# Altium footprint library con-wago-508.PCBLIB: 18 footprints (part 1 of 2)
Each footprint in its own frame and in the unit in brackets; x right, y up, seen from the top. Pads: shape width x height; smd on the part's side, far side on the other; paste and mask are expansions set on the pad; w line width, h text height; cw(c..) or ccw(c..) is an arc to the next point about the centre after c.
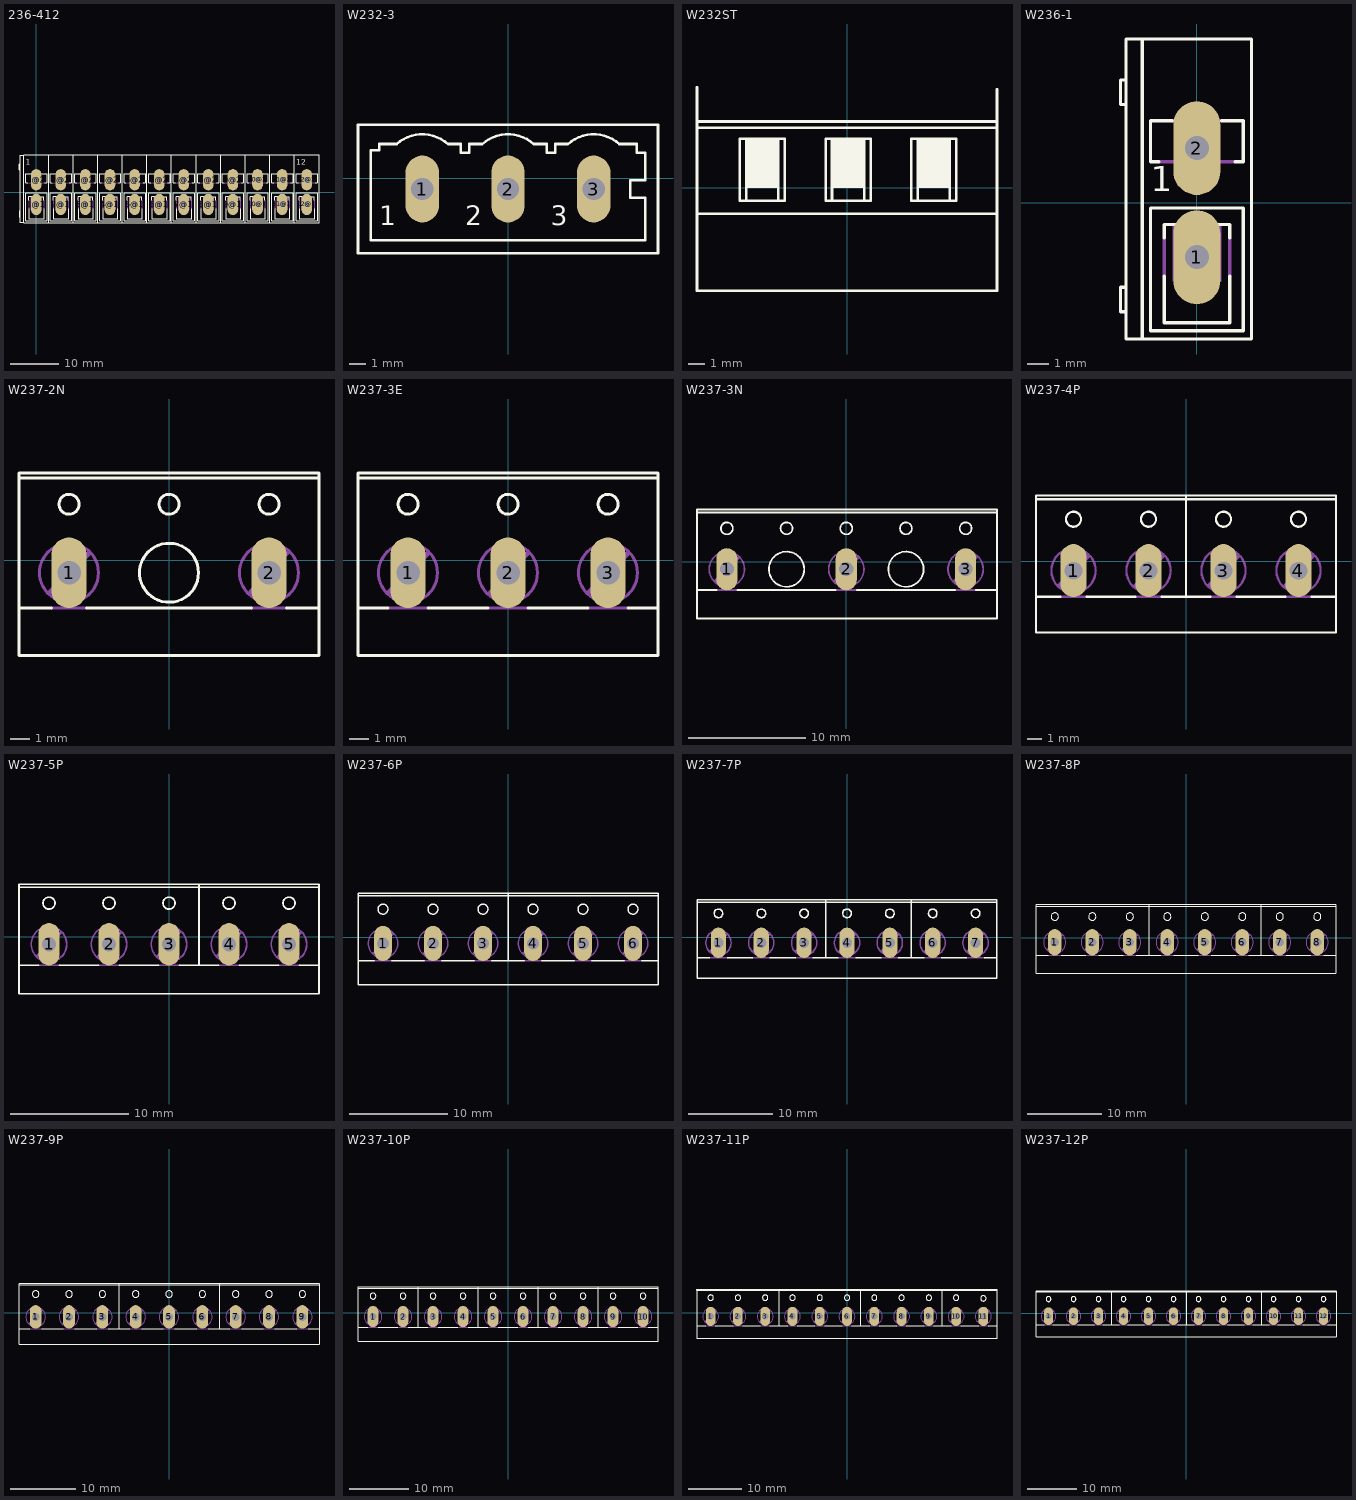
[diagram p0: the footprints below, top view; thin cyan lines are the x and y axes]

## 236-412 [mil]
pads (24):
  oval 86x172 hole 44: 1@1(0,-100) 1@2(0,100) 2@1(200,-100) 2@2(200,100) 3@1(400,-100) 3@2(400,100) 4@1(600,-100) 4@2(600,100) 5@1(800,-100) 5@2(800,100) 6@1(1000,-100) 6@2(1000,100) 7@1(1200,-100) 7@2(1200,100) 8@1(1400,-100) 8@2(1400,100) 9@1(1600,-100) 9@2(1600,100) 10@1(1800,-100) 10@2(1800,100) 11@1(2000,-100) 11@2(2000,100) 12@1(2200,-100) 12@2(2200,100)
Top Overlay:
  drawing of 254 lines, arcs and shapes, not listed
  text "1" at -85,205 h77.5
  text "12" at 2115,205 h77.5
Mechanical 16:
  rectangle: -45,-145 45,-40
  rectangle: 155,-145 245,-40
  rectangle: 355,-145 445,-40
  rectangle: 555,-145 645,-40
  rectangle: 755,-145 845,-40
  rectangle: 955,-145 1045,-40
  rectangle: 1155,-145 1245,-40
  rectangle: 1355,-145 1445,-40
  rectangle: 1555,-145 1645,-40
  rectangle: 1755,-145 1845,-40
  rectangle: 1955,-145 2045,-40
  rectangle: 2155,-145 2245,-40
  lines w6: -70,75 70,75 ; -60,-135 -60,-65 ; -45,150 45,150 ; -35,-40 35,-40 ; 60,-135 60,-65 ; 130,75 270,75 ; 140,-135 140,-65 ; 155,150 245,150 ; 165,-40 235,-40 ; 260,-135 260,-65 ; 330,75 470,75 ; 340,-135 340,-65 ; 355,150 445,150 ; 365,-40 435,-40 ; 460,-135 460,-65 ; 530,75 670,75 ; 540,-135 540,-65 ; 555,150 645,150 ; 565,-40 635,-40 ; 660,-135 660,-65 ; 730,75 870,75 ; 740,-135 740,-65 ; 755,150 845,150 ; 765,-40 835,-40 ; 860,-135 860,-65 ; 930,75 1070,75 ; 940,-135 940,-65 ; 955,150 1045,150 ; 965,-40 1035,-40 ; 1060,-135 1060,-65 ; 1130,75 1270,75 ; 1140,-135 1140,-65 ; 1155,150 1245,150 ; 1165,-40 1235,-40 ; 1260,-135 1260,-65 ; 1330,75 1470,75 ; 1340,-135 1340,-65 ; 1355,150 1445,150 ; 1365,-40 1435,-40 ; 1460,-135 1460,-65 ; 1530,75 1670,75 ; 1540,-135 1540,-65 ; 1555,150 1645,150 ; 1565,-40 1635,-40 ; 1660,-135 1660,-65 ; 1730,75 1870,75 ; 1740,-135 1740,-65 ; 1755,150 1845,150 ; 1765,-40 1835,-40 ; 1860,-135 1860,-65 ; 1930,75 2070,75 ; 1940,-135 1940,-65 ; 1955,150 2045,150 ; 1965,-40 2035,-40 ; 2060,-135 2060,-65 ; 2130,75 2270,75 ; 2140,-135 2140,-65 ; 2155,150 2245,150 ; 2165,-40 2235,-40 ; 2260,-135 2260,-65

## W232-3 [mil]
pads (3):
  oval 78x156 hole 52: 1(-200,-25) 2(0,-25) 3(200,-25)
Top Overlay:
  lines w6: -140.35,80.32 ccw(c-199.99,12) -260,80 -300,80 -300,65 -320,65 -320,-145 320,-145 320,-45 285,-45 285,-5 320,-5 320,60 300,60 300,80 260,80 ; -140,80 -110,80 -110,60 -90,60 -90,80 -60,80 cw(c0,12) 59.64,80.32 ; 60,80 90,80 90,60 110,60 110,80 140,80 cw(c200,12) 259.64,80.31 ; -350,-175 350,-175 350,125 -350,125 -350,-175
  text "1" at -300,-125 h77.5
  text "2" at -100,-125 h77.5
  text "3" at 100,-125 h77.5

## W232ST [mil]
Top Overlay:
  rectangle: -235,0 -160,115
  rectangle: -35,0 40,115
  rectangle: 165,0 240,115
  lines w6: -350,235 -350,155 ; 350,230 350,155 ; -350,-60 -350,-240 350,-240 350,-60 ; -350,-60 350,-60 ; -350,-60 -350,140 ; -350,140 350,140 ; -350,140 -350,155 ; -350,155 350,155 ; -235,-30 -250,-30 -250,115 -235,115 ; -235,-30 -235,115 ; -235,-30 -160,-30 ; -235,115 -160,115 ; -160,-30 -160,115 ; -160,-30 -145,-30 -145,115 -160,115 ; -35,-30 -50,-30 -50,115 -35,115 ; -35,-30 -35,115 ; -35,-30 40,-30 ; -35,115 40,115 ; 40,-30 40,115 ; 40,-30 55,-30 55,115 40,115 ; 165,-30 150,-30 150,115 165,115 ; 165,-30 165,115 ; 165,-30 240,-30 ; 165,115 240,115 ; 240,-30 240,115 ; 240,-30 255,-30 255,115 240,115 ; 350,-60 350,140 ; 350,140 350,155

## W236-1 [mil]
pads (2):
  oval 86x172 hole 44: 1(0,-100) 2(0,100)
Top Overlay:
  lines w6: -70,75 -85,75 -85,150 -45,150 ; -60,-135 -60,-220 60,-220 60,-135 ; -60,-65 -60,-40 -35,-40 ; 35,-40 60,-40 60,-65 ; 45,150 85,150 85,75 70,75 ; -130,-200 -130,-250 -100,-250 ; -130,-200 -140,-200 -140,-155 -130,-155 ; -130,-200 -130,-155 ; -130,-155 -130,180 ; -130,180 -140,180 -140,225 -130,225 ; -130,180 -130,225 ; -130,225 -130,300 -100,300 ; -100,-250 100,-250 100,300 -100,300 ; -100,-250 -100,300 ; -85,-235 85,-235 85,-10 -85,-10 -85,-235
  text "1" at -85,5 h77.5
Mechanical 16:
  rectangle: -45,-145 45,-40
  lines w6: -70,75 70,75 ; -60,-135 -60,-65 ; -45,150 45,150 ; -35,-40 35,-40 ; 60,-135 60,-65

## W237-2N [mil]
pads (2):
  oval 70.5x141 hole 47: 1(-200,-25) 2(200,-25)
Top Overlay:
  circle w6: c-200,112 r20
  circle w6: c200,112 r20
  circle w6: c0,-25 r59
  circle w6: c0,112 r20
  lines w6: -235,-95 -300,-95 ; -165,-95 165,-95 ; 235,-95 300,-95 ; -300,-95 -300,-190 300,-190 300,-95 ; -300,-95 -300,165 ; -300,165 300,165 ; -300,165 -300,175 300,175 300,165 ; 300,-95 300,165
Mechanical 16:
  circle w6: c-200,-25 r59
  circle w6: c200,-25 r59
  lines w6: -235,-95 -165,-95 ; 165,-95 235,-95
  lines w10: -239,-65 -160,14 ; 164,-63 235,14
  text "1" at -275,50 h77.5
  text "2" at 127,50 h77.5

## W237-3E [mil]
pads (3):
  oval 70.5x141 hole 47: 1(-200,-25) 2(0,-25) 3(200,-25)
Top Overlay:
  circle w6: c-200,112 r20
  circle w6: c0,112 r20
  circle w6: c200,112 r20
  lines w6: -240,-95 -300,-95 ; -160,-95 -40,-95 ; 40,-95 160,-95 ; 240,-95 300,-95 ; -300,-95 -300,-190 300,-190 300,-95 ; -300,-95 -300,165 ; -300,165 300,165 ; -300,165 -300,175 300,175 300,165 ; 300,-95 300,165
Mechanical 16:
  circle w6: c-200,-25 r59
  circle w6: c0,-25 r59
  circle w6: c200,-25 r59
  lines w6: -240,-95 -160,-95 ; -40,-95 40,-95 ; 160,-95 240,-95
  lines w10: -239,-65 -160,14 ; -36,-66 39,14 ; 161,-65 240,14
  text "1" at -275,50 h77.5
  text "2" at -73,48 h77.5
  text "3" at 125,50 h77.5

## W237-3N [mil]
pads (3):
  oval 70.5x141 hole 47: 1(-400,-25) 2(0,-25) 3(400,-25)
Top Overlay:
  circle w6: c-400,112 r20
  circle w6: c-200,-25 r59
  circle w6: c-200,112 r20
  circle w6: c0,112 r20
  circle w6: c400,112 r20
  circle w6: c200,-25 r59
  circle w6: c200,112 r20
  lines w6: -435,-95 -500,-95 ; -365,-95 -35,-95 ; 35,-95 365,-95 ; 435,-95 505,-95 ; -500,-95 -500,-190 505,-190 505,-95 ; -500,-95 -500,165 ; -500,165 505,165 ; -500,165 -500,175 505,175 505,165 ; 505,-95 505,165
Mechanical 16:
  circle w6: c-400,-25 r59
  circle w6: c0,-25 r59
  circle w6: c400,-25 r59
  lines w6: -435,-95 -365,-95 ; -35,-95 35,-95 ; 365,-95 435,-95
  lines w10: -439,-65 -360,14 ; -39,-65 40,14 ; 364,-63 435,14
  text "1" at -475,50 h77.5
  text "3" at 327,50 h77.5
  text "2" at -75,50 h77.5

## W237-4P [mil]
pads (4):
  oval 70.5x141 hole 47: 1(-300,-25) 2(-100,-25) 3(100,-25) 4(300,-25)
Top Overlay:
  circle w6: c-300,112 r20
  circle w6: c-100,112 r20
  circle w6: c100,112 r20
  circle w6: c300,112 r20
  lines w6: -335,-95 -400,-95 ; -265,-95 -135,-95 ; -65,-95 0,-95 ; 65,-95 0,-95 ; 135,-95 265,-95 ; 335,-95 400,-95 ; -400,-95 -400,-190 400,-190 400,-95 ; -400,-95 -400,165 ; -400,165 400,165 ; -400,165 -400,175 0,175 ; 0,-95 0,175 ; 0,175 400,175 400,165 ; 400,-95 400,165
Mechanical 16:
  circle w6: c-300,-25 r59
  circle w6: c-100,-25 r59
  circle w6: c100,-25 r59
  circle w6: c300,-25 r59
  lines w6: -335,-95 -265,-95 ; -135,-95 -65,-95 ; 65,-95 135,-95 ; 265,-95 335,-95
  lines w10: -339,-65 -260,14 ; -136,-66 -61,14 ; 61,-65 140,14 ; 264,-66 339,14
  text "1" at -375,50 h77.5
  text "2" at -173,48 h77.5
  text "3" at 25,50 h77.5
  text "4" at 227,48 h77.5

## W237-5P [mil]
pads (5):
  oval 70.5x141 hole 47: 1(-400,-25) 2(-200,-25) 3(0,-25) 4(200,-25) 5(400,-25)
Top Overlay:
  circle w6: c-400,112 r20
  circle w6: c0,112 r20
  circle w6: c-200,112 r20
  circle w6: c200,112 r20
  circle w6: c400,112 r20
  lines w6: -435,-95 -500,-95 ; -365,-95 -235,-95 ; -165,-95 -35,-95 ; 35,-95 100,-95 ; 165,-95 100,-95 ; 235,-95 365,-95 ; 435,-95 500,-95 ; -500,-95 -500,-190 500,-190 500,-95 ; -500,-95 -500,165 ; -500,165 500,165 ; -500,165 -500,175 100,175 ; 100,-95 100,175 ; 100,175 500,175 500,165 ; 500,-95 500,165
Mechanical 16:
  circle w6: c-400,-25 r59
  circle w6: c0,-25 r59
  circle w6: c-200,-25 r59
  circle w6: c200,-25 r59
  circle w6: c400,-25 r59
  lines w6: -435,-95 -365,-95 ; -235,-95 -165,-95 ; -35,-95 35,-95 ; 165,-95 235,-95 ; 365,-95 435,-95
  lines w10: -439,-65 -360,14 ; -236,-66 -161,14 ; -36,-63 35,14 ; 161,-65 240,14 ; 364,-66 439,14
  text "1" at -475,50 h77.5
  text "2" at -273,48 h77.5
  text "3" at -73,50 h77.5
  text "4" at 125,50 h77.5
  text "5" at 327,48 h77.5

## W237-6P [mil]
pads (6):
  oval 70.5x141 hole 47: 1(-500,-25) 2(-300,-25) 3(-100,-25) 4(100,-25) 5(300,-25) 6(500,-25)
Top Overlay:
  circle w6: c-500,112 r20
  circle w6: c-100,112 r20
  circle w6: c-300,112 r20
  circle w6: c100,112 r20
  circle w6: c500,112 r20
  circle w6: c300,112 r20
  lines w6: -535,-95 -600,-95 ; -465,-95 -335,-95 ; -265,-95 -135,-95 ; -65,-95 0,-95 ; 65,-95 0,-95 ; 135,-95 265,-95 ; 335,-95 465,-95 ; 535,-95 600,-95 ; -600,-95 -600,-190 600,-190 600,-95 ; -600,-95 -600,165 ; -600,165 -600,175 0,175 ; -600,165 600,165 ; 0,-95 0,175 ; 0,175 600,175 600,165 ; 600,-95 600,165
Mechanical 16:
  circle w6: c-500,-25 r59
  circle w6: c-100,-25 r59
  circle w6: c-300,-25 r59
  circle w6: c100,-25 r59
  circle w6: c500,-25 r59
  circle w6: c300,-25 r59
  lines w6: -535,-95 -465,-95 ; -335,-95 -265,-95 ; -135,-95 -65,-95 ; 65,-95 135,-95 ; 265,-95 335,-95 ; 465,-95 535,-95
  lines w10: -539,-65 -460,14 ; -336,-66 -261,14 ; -136,-63 -65,14 ; 61,-65 140,14 ; 264,-66 339,14 ; 464,-63 535,14
  text "1" at -575,50 h77.5
  text "2" at -373,48 h77.5
  text "3" at -173,50 h77.5
  text "4" at 25,50 h77.5
  text "5" at 227,48 h77.5
  text "6" at 427,50 h77.5

## W237-7P [mil]
pads (7):
  oval 70.5x141 hole 47: 1(-600,-25) 2(-400,-25) 3(-200,-25) 4(0,-25) 5(200,-25) 6(400,-25) 7(600,-25)
Top Overlay:
  circle w6: c-600,112 r20
  circle w6: c-400,112 r20
  circle w6: c-200,112 r20
  circle w6: c0,112 r20
  circle w6: c200,112 r20
  circle w6: c600,112 r20
  circle w6: c400,112 r20
  lines w6: -640,-95 -700,-95 ; -560,-95 -440,-95 ; -360,-95 -240,-95 ; -160,-95 -100,-95 ; -40,-95 -100,-95 ; 40,-95 160,-95 ; 240,-95 300,-95 ; 360,-95 300,-95 ; 440,-95 560,-95 ; 640,-95 700,-95 ; -700,-95 -700,-190 700,-190 700,-95 ; -700,-95 -700,165 ; -700,165 700,165 ; -700,165 -700,175 -100,175 ; -100,-95 -100,175 ; -100,175 300,175 ; 300,-95 300,175 ; 300,175 700,175 700,165 ; 700,-95 700,165
Mechanical 16:
  circle w6: c-600,-25 r59
  circle w6: c-400,-25 r59
  circle w6: c-200,-25 r59
  circle w6: c0,-25 r59
  circle w6: c200,-25 r59
  circle w6: c600,-25 r59
  circle w6: c400,-25 r59
  lines w6: -640,-95 -560,-95 ; -440,-95 -360,-95 ; -240,-95 -160,-95 ; -40,-95 40,-95 ; 160,-95 240,-95 ; 360,-95 440,-95 ; 560,-95 640,-95
  lines w10: -639,-65 -560,14 ; -436,-66 -361,14 ; -239,-65 -160,14 ; -36,-66 39,14 ; 161,-65 240,14 ; 364,-66 439,14 ; 564,-63 635,14
  text "1" at -675,50 h77.5
  text "2" at -473,48 h77.5
  text "3" at -275,50 h77.5
  text "4" at -73,48 h77.5
  text "5" at 125,50 h77.5
  text "6" at 327,48 h77.5
  text "7" at 527,50 h77.5

## W237-8P [mil]
pads (8):
  oval 70.5x141 hole 47: 1(-700,-25) 2(-500,-25) 3(-300,-25) 4(-100,-25) 5(100,-25) 6(300,-25) 7(500,-25) 8(700,-25)
Top Overlay:
  circle w6: c-700,112 r20
  circle w6: c-500,112 r20
  circle w6: c-300,112 r20
  circle w6: c-100,112 r20
  circle w6: c100,112 r20
  circle w6: c300,112 r20
  circle w6: c500,112 r20
  circle w6: c700,112 r20
  lines w6: -735,-95 -800,-95 ; -665,-95 -535,-95 ; -465,-95 -335,-95 ; -265,-95 -200,-95 ; -135,-95 -200,-95 ; -65,-95 65,-95 ; 135,-95 265,-95 ; 335,-95 400,-95 ; 465,-95 400,-95 ; 535,-95 665,-95 ; 735,-95 800,-95 ; -800,-95 -800,-190 800,-190 800,-95 ; -800,-95 -800,165 ; -800,165 800,165 ; -800,165 -800,175 -200,175 ; -200,-95 -200,175 ; -200,175 400,175 ; 400,-95 400,175 ; 400,175 800,175 800,165 ; 800,-95 800,165
Mechanical 16:
  circle w6: c-700,-25 r59
  circle w6: c-500,-25 r59
  circle w6: c-300,-25 r59
  circle w6: c-100,-25 r59
  circle w6: c100,-25 r59
  circle w6: c300,-25 r59
  circle w6: c500,-25 r59
  circle w6: c700,-25 r59
  lines w6: -735,-95 -665,-95 ; -535,-95 -465,-95 ; -335,-95 -265,-95 ; -135,-95 -65,-95 ; 65,-95 135,-95 ; 265,-95 335,-95 ; 465,-95 535,-95 ; 665,-95 735,-95
  lines w10: -739,-65 -660,14 ; -536,-66 -461,14 ; -339,-65 -260,14 ; -136,-66 -61,14 ; 61,-65 140,14 ; 264,-66 339,14 ; 461,-65 540,14 ; 664,-66 739,14
  text "1" at -775,50 h77.5
  text "2" at -573,48 h77.5
  text "3" at -375,50 h77.5
  text "4" at -173,48 h77.5
  text "5" at 25,50 h77.5
  text "6" at 227,48 h77.5
  text "7" at 425,50 h77.5
  text "8" at 627,48 h77.5

## W237-9P [mil]
pads (9):
  oval 70.5x141 hole 47: 1(-800,-25) 2(-600,-25) 3(-400,-25) 4(-200,-25) 5(0,-25) 6(200,-25) 7(400,-25) 8(600,-25) 9(800,-25)
Top Overlay:
  circle w6: c-800,112 r20
  circle w6: c-400,112 r20
  circle w6: c-600,112 r20
  circle w6: c-200,112 r20
  circle w6: c200,112 r20
  circle w6: c0,112 r20
  circle w6: c400,112 r20
  circle w6: c800,112 r20
  circle w6: c600,112 r20
  lines w6: -835,-95 -900,-95 ; -765,-95 -635,-95 ; -565,-95 -435,-95 ; -365,-95 -300,-95 ; -235,-95 -300,-95 ; -165,-95 -35,-95 ; 35,-95 165,-95 ; 235,-95 300,-95 ; 365,-95 300,-95 ; 435,-95 565,-95 ; 635,-95 765,-95 ; 835,-95 900,-95 ; -900,-95 -900,-190 900,-190 900,-95 ; -900,-95 -900,165 ; -900,165 900,165 ; -900,165 -900,175 -300,175 ; -300,-95 -300,175 ; -300,175 300,175 ; 300,-95 300,175 ; 300,175 900,175 900,165 ; 900,-95 900,165
Mechanical 16:
  circle w6: c-800,-25 r59
  circle w6: c-400,-25 r59
  circle w6: c-600,-25 r59
  circle w6: c-200,-25 r59
  circle w6: c200,-25 r59
  circle w6: c0,-25 r59
  circle w6: c400,-25 r59
  circle w6: c800,-25 r59
  circle w6: c600,-25 r59
  lines w6: -835,-95 -765,-95 ; -635,-95 -565,-95 ; -435,-95 -365,-95 ; -235,-95 -165,-95 ; -35,-95 35,-95 ; 165,-95 235,-95 ; 365,-95 435,-95 ; 565,-95 635,-95 ; 765,-95 835,-95
  lines w10: -839,-65 -760,14 ; -636,-66 -561,14 ; -436,-63 -365,14 ; -239,-65 -160,14 ; -36,-66 39,14 ; 164,-63 235,14 ; 361,-65 440,14 ; 564,-66 639,14 ; 764,-63 835,14
  text "1" at -875,50 h77.5
  text "2" at -673,48 h77.5
  text "3" at -473,50 h77.5
  text "4" at -275,50 h77.5
  text "5" at -73,48 h77.5
  text "6" at 127,50 h77.5
  text "7" at 325,50 h77.5
  text "8" at 527,48 h77.5
  text "9" at 727,50 h77.5

## W237-10P [mil]
pads (10):
  oval 70.5x141 hole 47: 1(-900,-25) 2(-700,-25) 3(-500,-25) 4(-300,-25) 5(-100,-25) 6(100,-25) 7(300,-25) 8(500,-25) 9(700,-25) 10(900,-25)
Top Overlay:
  circle w6: c-900,112 r20
  circle w6: c-700,112 r20
  circle w6: c-500,112 r20
  circle w6: c-300,112 r20
  circle w6: c-100,112 r20
  circle w6: c100,112 r20
  circle w6: c300,112 r20
  circle w6: c500,112 r20
  circle w6: c700,112 r20
  circle w6: c900,112 r20
  lines w6: -935,-95 -1000,-95 ; -865,-95 -735,-95 ; -665,-95 -600,-95 ; -535,-95 -600,-95 ; -465,-95 -335,-95 ; -265,-95 -200,-95 ; -135,-95 -200,-95 ; -65,-95 65,-95 ; 135,-95 200,-95 ; 265,-95 200,-95 ; 335,-95 465,-95 ; 535,-95 600,-95 ; 665,-95 600,-95 ; 735,-95 865,-95 ; 935,-95 1000,-95 ; -1000,-95 -1000,-190 1000,-190 1000,-95 ; -1000,-95 -1000,165 ; -1000,165 -600,165 ; -1000,165 -1000,175 -600,175 ; -600,-95 -600,165 ; -600,165 -600,175 ; -600,165 1000,165 ; -600,175 -200,175 ; -200,-95 -200,175 ; -200,175 200,175 ; 200,-95 200,175 ; 200,175 600,175 ; 600,-95 600,175 ; 600,175 1000,175 1000,165 ; 1000,-95 1000,165
Mechanical 16:
  circle w6: c-900,-25 r59
  circle w6: c-700,-25 r59
  circle w6: c-500,-25 r59
  circle w6: c-300,-25 r59
  circle w6: c-100,-25 r59
  circle w6: c100,-25 r59
  circle w6: c300,-25 r59
  circle w6: c500,-25 r59
  circle w6: c700,-25 r59
  circle w6: c900,-25 r59
  lines w6: -939,-65 -860,14 ; -935,-95 -865,-95 ; -736,-66 -661,14 ; -735,-95 -665,-95 ; -539,-65 -460,14 ; -535,-95 -465,-95 ; -336,-66 -261,14 ; -335,-95 -265,-95 ; -139,-65 -60,14 ; -135,-95 -65,-95 ; 64,-66 139,14 ; 65,-95 135,-95 ; 261,-65 340,14 ; 265,-95 335,-95 ; 464,-66 539,14 ; 465,-95 535,-95 ; 661,-65 740,14 ; 665,-95 735,-95 ; 864,-66 939,14 ; 865,-95 935,-95
  text "1" at -975,50 h77.5
  text "2" at -773,48 h77.5
  text "3" at -575,50 h77.5
  text "4" at -373,48 h77.5
  text "5" at -175,50 h77.5
  text "6" at 27,48 h77.5
  text "7" at 225,50 h77.5
  text "8" at 427,48 h77.5
  text "9" at 625,50 h77.5
  text "10" at 792,48 h77.5

## W237-11P [mil]
pads (11):
  oval 70.5x141 hole 47: 1(-1000,-25) 2(-800,-25) 3(-600,-25) 4(-400,-25) 5(-200,-25) 6(0,-25) 7(200,-25) 8(400,-25) 9(600,-25) 10(800,-25) 11(1000,-25)
Top Overlay:
  circle w6: c-1000,112 r20
  circle w6: c-600,112 r20
  circle w6: c-800,112 r20
  circle w6: c-400,112 r20
  circle w6: c0,112 r20
  circle w6: c-200,112 r20
  circle w6: c200,112 r20
  circle w6: c600,112 r20
  circle w6: c400,112 r20
  circle w6: c800,112 r20
  circle w6: c1000,107 r20
  lines w6: -1035,-95 -1100,-95 ; -965,-95 -835,-95 ; -765,-95 -635,-95 ; -565,-95 -500,-95 ; -435,-95 -500,-95 ; -365,-95 -235,-95 ; -165,-95 -35,-95 ; 35,-95 100,-95 ; 165,-95 100,-95 ; 235,-95 365,-95 ; 435,-95 565,-95 ; 635,-95 700,-95 ; 765,-95 700,-95 ; 835,-95 965,-95 ; 1035,-95 1100,-95 ; 1100,165 -1100,165 ; -1100,-95 -1100,165 ; -1100,-95 -1100,-190 1100,-190 1100,-95 ; -1100,165 -1100,175 -500,175 ; -500,-95 -500,175 ; -500,175 100,175 ; 100,-95 100,175 ; 100,175 700,175 ; 700,-95 700,175 ; 700,175 1100,175 1100,-95
Mechanical 16:
  circle w6: c-1000,-25 r59
  circle w6: c-600,-25 r59
  circle w6: c-800,-25 r59
  circle w6: c-400,-25 r59
  circle w6: c0,-25 r59
  circle w6: c-200,-25 r59
  circle w6: c200,-25 r59
  circle w6: c600,-25 r59
  circle w6: c400,-25 r59
  circle w6: c800,-25 r59
  circle w6: c1000,-25 r59
  lines w6: -1035,-95 -965,-95 ; -835,-95 -765,-95 ; -635,-95 -565,-95 ; -435,-95 -365,-95 ; -235,-95 -165,-95 ; -35,-95 35,-95 ; 165,-95 235,-95 ; 365,-95 435,-95 ; 565,-95 635,-95 ; 765,-95 835,-95 ; 965,-95 1035,-95
  lines w10: -1039,-65 -960,14 ; -836,-66 -761,14 ; -636,-63 -565,14 ; -439,-65 -360,14 ; -236,-66 -161,14 ; -36,-63 35,14 ; 161,-65 240,14 ; 364,-66 439,14 ; 564,-63 635,14 ; 761,-65 840,14 ; 964,-66 1039,14
  text "1" at -965,50 h60.45
  text "2" at -763,48 h60.45
  text "3" at -563,50 h60.45
  text "4" at -365,50 h60.45
  text "5" at -163,48 h60.45
  text "6" at 37,50 h60.45
  text "7" at 235,50 h60.45
  text "8" at 437,48 h60.45
  text "9" at 637,50 h60.45
  text "10" at 835,50 h60.45
  text "11" at 1027,48 h60.45

## W237-12P [mil]
pads (12):
  oval 70.5x141 hole 47: 1(-1100,-25) 2(-900,-25) 3(-700,-25) 4(-500,-25) 5(-300,-25) 6(-100,-25) 7(100,-25) 8(300,-25) 9(500,-25) 10(700,-25) 11(900,-25) 12(1100,-25)
Top Overlay:
  circle w6: c-1100,112 r20
  circle w6: c-700,112 r20
  circle w6: c-900,112 r20
  circle w6: c-500,112 r20
  circle w6: c-100,112 r20
  circle w6: c-300,112 r20
  circle w6: c100,112 r20
  circle w6: c500,112 r20
  circle w6: c300,112 r20
  circle w6: c700,112 r20
  circle w6: c1100,112 r20
  circle w6: c900,112 r20
  lines w6: -1135,-95 -1200,-95 ; -1065,-95 -935,-95 ; -865,-95 -735,-95 ; -665,-95 -600,-95 ; -535,-95 -600,-95 ; -465,-95 -335,-95 ; -265,-95 -135,-95 ; -65,-95 0,-95 ; 65,-95 0,-95 ; 135,-95 265,-95 ; 335,-95 465,-95 ; 535,-95 600,-95 ; 665,-95 600,-95 ; 735,-95 865,-95 ; 935,-95 1065,-95 ; 1135,-95 1200,-95 ; -1200,-95 -1200,-190 1200,-190 1200,-95 ; -1200,-95 -1200,165 ; -1200,165 1200,165 ; -1200,165 -1200,175 -600,175 ; -600,-95 -600,175 ; -600,175 0,175 ; 0,-95 0,175 ; 0,175 600,175 ; 600,-95 600,175 ; 600,175 1200,175 1200,165 ; 1200,-95 1200,165
Mechanical 16:
  circle w6: c-1100,-25 r59
  circle w6: c-700,-25 r59
  circle w6: c-900,-25 r59
  circle w6: c-500,-25 r59
  circle w6: c-100,-25 r59
  circle w6: c-300,-25 r59
  circle w6: c100,-25 r59
  circle w6: c500,-25 r59
  circle w6: c300,-25 r59
  circle w6: c700,-25 r59
  circle w6: c1100,-25 r59
  circle w6: c900,-25 r59
  lines w6: -1135,-95 -1065,-95 ; -935,-95 -865,-95 ; -735,-95 -665,-95 ; -535,-95 -465,-95 ; -335,-95 -265,-95 ; -135,-95 -65,-95 ; 65,-95 135,-95 ; 265,-95 335,-95 ; 465,-95 535,-95 ; 665,-95 735,-95 ; 865,-95 935,-95 ; 1065,-95 1135,-95
  lines w10: -1139,-65 -1060,14 ; -936,-66 -861,14 ; -736,-63 -665,14 ; -539,-65 -460,14 ; -336,-66 -261,14 ; -136,-63 -65,14 ; 61,-65 140,14 ; 264,-66 339,14 ; 464,-63 535,14 ; 661,-65 740,14 ; 864,-66 939,14 ; 1064,-63 1135,14
  text "1" at -1065,50 h60.45
  text "2" at -863,48 h60.45
  text "3" at -663,50 h60.45
  text "4" at -465,50 h60.45
  text "5" at -263,48 h60.45
  text "6" at -63,50 h60.45
  text "7" at 135,50 h60.45
  text "8" at 337,48 h60.45
  text "9" at 537,50 h60.45
  text "10" at 710,50 h60.45
  text "11" at 912,48 h60.45
  text "12" at 1112,50 h60.45